# EAGLE library part PI49FCT805T (library xess)
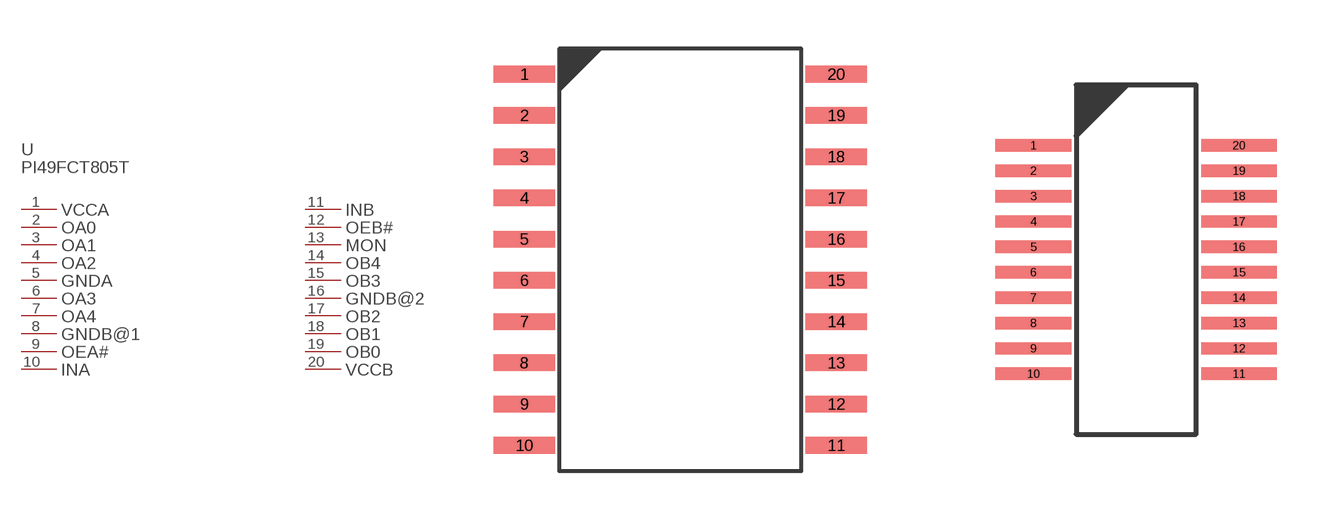
[diagram p69: symbol with the pads of PI49FCT805T-SOIC; footprints PI49FCT805T-SOIC, PI49FCT805T-QSOP]

Designator prefix U; gates PART_VALUE=PART_VALUE-PI49FCT805T-SOIC VCCA=PL-PI49FCT805T-SOIC OA0=PL-PI49FCT805T-SOIC OA1=PL-PI49FCT805T-SOIC OA2=PL-PI49FCT805T-SOIC GNDA=PL-PI49FCT805T-SOIC OA3=PL-PI49FCT805T-SOIC OA4=PL-PI49FCT805T-SOIC GNDB@1=PL-PI49FCT805T-SOIC OEA#=PL-PI49FCT805T-SOIC INA=PL-PI49FCT805T-SOIC INB=PL-PI49FCT805T-SOIC OEB#=PL-PI49FCT805T-SOIC MON=PL-PI49FCT805T-SOIC OB4=PL-PI49FCT805T-SOIC OB3=PL-PI49FCT805T-SOIC GNDB@2=PL-PI49FCT805T-SOIC OB2=PL-PI49FCT805T-SOIC OB1=PL-PI49FCT805T-SOIC OB0=PL-PI49FCT805T-SOIC VCCB=PL-PI49FCT805T-SOIC

## PI49FCT805TSOIC  [PI49FCT805T-SOIC]
1  VCCA:P$1
2  OA0:P$1
3  OA1:P$1
4  OA2:P$1
5  GNDA:P$1
6  OA3:P$1
7  OA4:P$1
8  GNDB@1:P$1
9  OEA#:P$1
10  INA:P$1
11  INB:P$1
12  OEB#:P$1
13  MON:P$1
14  OB4:P$1
15  OB3:P$1
16  GNDB@2:P$1
17  OB2:P$1
18  OB1:P$1
19  OB0:P$1
20  VCCB:P$1

## PI49FCT805TQSOP  [PI49FCT805T-QSOP]
Pads as for PI49FCT805T-SOIC

## PI49FCT805TSSOP  [PI49FCT805T-SSOP]
Pads as for PI49FCT805T-SOIC

## Footprint PI49FCT805T-SOIC (pad centres in mm)
smd 1.89 x 0.51: 1 -0.11,0; 2 -0.11,-1.27; 3 -0.11,-2.54; 4 -0.11,-3.81; 5 -0.11,-5.08; 6 -0.11,-6.35; 7 -0.11,-7.62; 8 -0.11,-8.89; 9 -0.11,-10.16; 10 -0.11,-11.43; 11 9.49,-11.43; 12 9.49,-10.16; 13 9.49,-8.89; 14 9.49,-7.62; 15 9.49,-6.35; 16 9.49,-5.08; 17 9.49,-3.81; 18 9.49,-2.54; 19 9.49,-1.27; 20 9.49,0

## Footprint PI49FCT805T-QSOP (pad centres in mm)
smd 1.89 x 0.31: 1 -0.11,0; 2 -0.11,-0.635; 3 -0.11,-1.27; 4 -0.11,-1.905; 5 -0.11,-2.54; 6 -0.11,-3.175; 7 -0.11,-3.81; 8 -0.11,-4.445; 9 -0.11,-5.08; 10 -0.11,-5.715; 11 5.03,-5.715; 12 5.03,-5.08; 13 5.03,-4.445; 14 5.03,-3.81; 15 5.03,-3.175; 16 5.03,-2.54; 17 5.03,-1.905; 18 5.03,-1.27; 19 5.03,-0.635; 20 5.03,0

## Footprint PI49FCT805T-SSOP (pad centres in mm)
smd 1.57 x 0.25: 1 -0.11,0; 2 -0.11,-0.65; 3 -0.11,-1.3; 4 -0.11,-1.95; 5 -0.11,-2.6; 6 -0.11,-3.25; 7 -0.11,-3.9; 8 -0.11,-4.55; 9 -0.11,-5.2; 10 -0.11,-5.85; 11 7.36,-5.85; 12 7.36,-5.2; 13 7.36,-4.55; 14 7.36,-3.9; 15 7.36,-3.25; 16 7.36,-2.6; 17 7.36,-1.95; 18 7.36,-1.3; 19 7.36,-0.65; 20 7.36,0